# Altium footprint library AccShelf.PcbLib: 18 footprints (part 1 of 2)
Each footprint in its own frame and in the unit in brackets; x right, y up, seen from the top. Pads: shape width x height; smd on the part's side, far side on the other; paste and mask are expansions set on the pad; w line width, h text height; cw(c..) or ccw(c..) is an arc to the next point about the centre after c.
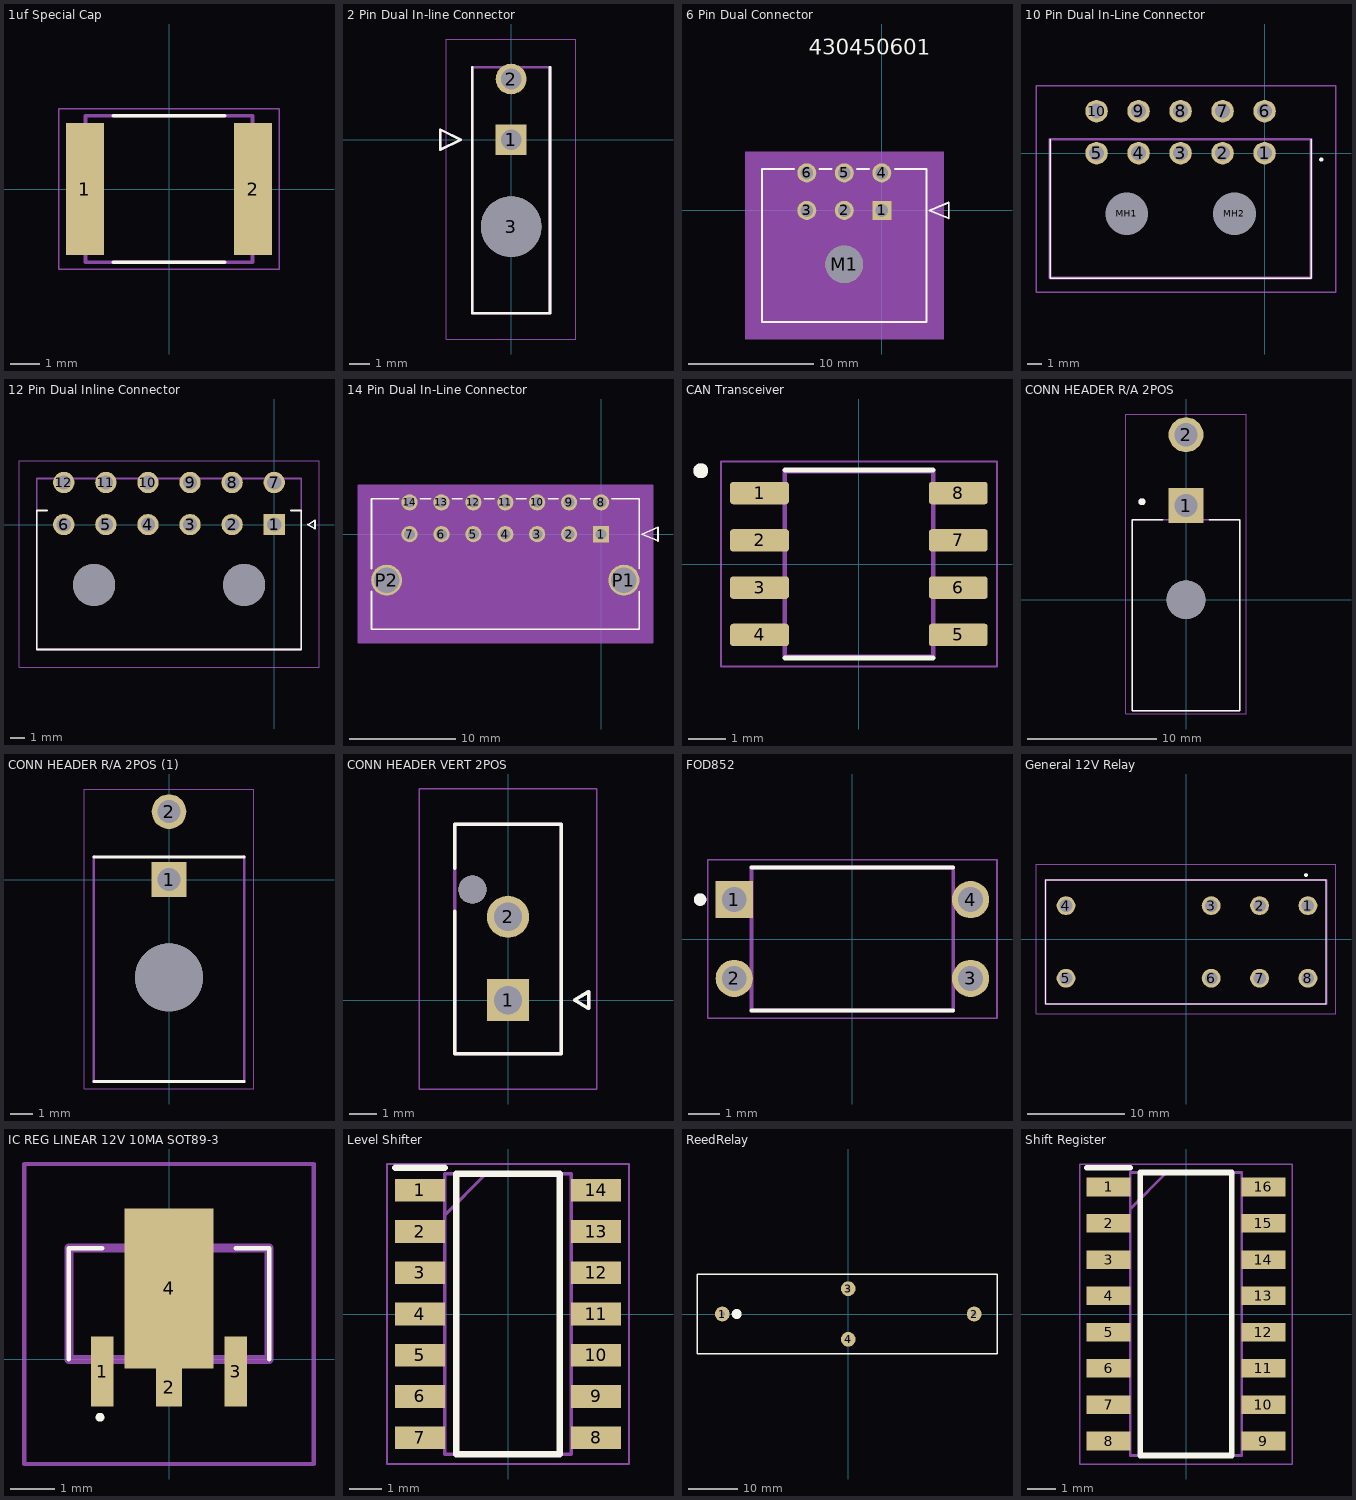
[diagram p0: the footprints below, top view; thin cyan lines are the x and y axes]

## 1uf Special Cap [mm]
height 2.8
pads (2):
  rect 1.3x4.5 smd: 1(-2.875,0) 2(2.875,0)
Top Overlay:
  lines w0.127: -1.905,-2.5 1.905,-2.5 ; -1.905,2.5 1.905,2.5
Mechanical 13:
  lines w0.127: -2.85,-2.5 2.85,-2.5 2.85,2.5 -2.85,2.5 -2.85,-2.5
Mechanical 15:
  lines w0.05: -3.775,-2.75 3.775,-2.75 3.775,2.75 -3.775,2.75 -3.775,-2.75
3D body "CGA9P4X7T2W105K250KA.STEP": height 2.81, standoff 0.01, extent -2.85,-2.54 2.85,2.46

## 2 Pin Dual In-line Connector [mm]
pads (3):
  rect 1.52x1.52 / inner round 1.52 / far side rect 1.52x1.52 hole 1.02 mask+0.076: 1(0,0)
  round 1.52 hole 1.02 mask+0.076: 2(0,3)
  round 3 hole 3 unplated mask+0.076: 3(0,-4.3)
Top Overlay:
  lines w0.127: -1.925,3.59 -1.925,-8.59 1.925,-8.59 1.925,3.59 ; -3.5,-0.5 -3.5,0.5 -2.5,0 -3.5,-0.5
Mechanical 15:
  lines w0.127: -3.5,-0.5 -3.5,0.5 -2.5,0 -3.5,-0.5 ; -1.925,-8.59 1.925,-8.59 1.925,3.59 -1.925,3.59 -1.925,-8.59
Bottom Assembly:
  lines w0.05: -3.195,-9.86 3.195,-9.86 3.195,4.979 -3.195,4.979 -3.195,-9.86
3D body "212528-0200.stp": height 8.81, standoff -3.24, extent -1.945,-8.757 1.905,3.423

## 6 Pin Dual Connector [mm]
pads (7):
  rect 1.52x1.52 hole 1.02 mask+0.076: 1(0,0)
  round 1.52 hole 1.02 mask+0.076: 2(-3,0) 3(-6,0) 4(0,3) 5(-3,3) 6(-6,3)
  round 3 hole 3 unplated mask+0.076: M1(-3,-4.32)
Top Overlay:
  lines w0.152: -7.032,3.32 -9.575,3.32 -9.575,-8.92 3.575,-8.92 3.575,3.32 1.032,3.32 ; -4.968,3.32 -4.032,3.32 ; -1.968,3.32 -1.032,3.32 ; 3.829,0 5.353,-0.635 5.353,0.635 3.829,0
  text "430450601" at -5.858,12.44 h1.27
Mechanical 3:
  text "NPTH_DRILL_SIZE:_3.0_MM,_TOLERANCE:_+0.05/-0.05" at -17.923,-18.04 h1.27
  text "PTH_DRILL_SIZE:_1.02_MM,_TOLERANCE:_+0.05/-0.05" at -17.923,-15.5 h1.27
Mechanical 5:
  region: -10.922,4.699 4.953,4.699 4.953,-10.287 -10.922,-10.287
Mechanical 10:
  text "NPTH_DRILL_SIZE:_3.0_MM,_TOLERANCE:_+0.05/-0.05" at -17.923,-18.04 h1.27
  text "PTH_DRILL_SIZE:_1.02_MM,_TOLERANCE:_+0.05/-0.05" at -17.923,-15.5 h1.27
Mechanical 13:
  lines w0.127: -9.575,-8.92 -9.575,3.32 3.575,3.32 3.575,-8.92 -9.575,-8.92 ; 3.829,0 5.353,-0.635 5.353,0.635 3.829,0
  text "430450601" at -5.858,12.44 h1.27
Mechanical 15:
  region: 4.845,4.59 -10.845,4.59 -10.845,-10.19 4.845,-10.19
  lines w0.127: -10.845,-10.19 4.845,-10.19 4.845,4.59 -10.845,4.59 -10.845,-10.19
3D body "430450601.stp": height 8.78, standoff -3.17, extent -9.594,-8.914 3.556,3.326
3D body: height 0.25, standoff 0, extent 0,0 0.254,0.254

## 10 Pin Dual In-Line Connector [mm]
pads (12):
  round 1.605 hole 1.07: 1(0,0) 2(-3,0) 3(-6,0) 4(-9,0) 5(-12,0) 6(0,3) 7(-3,3) 8(-6,3) 9(-9,3) 10(-12,3)
  round 1.525 hole 3.05 unplated: MH1(-9.85,-4.32) MH2(-2.15,-4.32)
Top Overlay:
  lines w0.1: -15.325,0.99 -15.325,-8.92 3.325,-8.92 3.325,0.99
  lines w0.2: 4,-0.46 ccw(c4.05,-0.46) 4.1,-0.46 ccw(c4.05,-0.46) 4,-0.46
Mechanical 15:
  lines w0.2: -15.325,-8.92 3.325,-8.92 3.325,0.99 -15.325,0.99 -15.325,-8.92
Bottom Assembly:
  lines w0.1: -16.325,-9.92 5.1,-9.92 5.1,4.803 -16.325,4.803 -16.325,-9.92
3D body "0430451000--3DModel-STEP-361473.STEP": height 8.78, standoff -3.17, extent -15.544,-8.892 3.606,3.348

## 12 Pin Dual Inline Connector [mm]
height 8.8
pads (14):
  rect 1.52x1.52 / inner round 1.52 / far side rect 1.52x1.52 hole 1.02 mask+0.076: 1(0,0)
  round 1.52 hole 1.02 mask+0.076: 2(-3,0) 3(-6,0) 4(-9,0) 5(-12,0) 6(-15,0) 7(0,3) 8(-3,3) 9(-6,3) 10(-9,3) 11(-12,3) 12(-15,3)
  round 3 hole 3 unplated mask+0.076: ""(-12.84,-4.3) ""(-2.14,-4.3)
Top Overlay:
  lines w0.127: -16.2,1.01 -16.925,1.01 -16.925,-8.9 1.925,-8.9 1.925,1.01 1.2,1.01 ; 2.4,0 2.9,0.3 2.9,-0.3 2.4,0
Mechanical 13:
  lines w0.127: -16.925,-8.9 1.925,-8.9 1.925,3.28 -16.925,3.28 -16.925,-8.9 ; 2.4,0 2.9,-0.3 2.9,0.3 2.4,0
  text "PTH D1.02" at -18.302,6.707 h0.5
  text "NPTH D3.00 +/- 0.05" at -18.302,5.437 h0.5
Mechanical 15:
  lines w0.05: -18.195,-10.17 3.195,-10.17 3.195,4.55 -18.195,4.55 -18.195,-10.17
3D body "2125281200--3DModel-STEP-361473.STEP": height 8.81, standoff -3.24, extent -16.918,-8.89 1.932,3.29

## 14 Pin Dual In-Line Connector [mm]
pads (16):
  rect 1.52x1.52 / inner round 1.524 / far side rect 1.52x1.52 hole 1.02 paste-0.76 mask+0.076: 1(0,0)
  round 1.52 / inner round 1.524 / far side round 1.52 hole 1.02 paste-0.76 mask+0.076: 2(-3,0) 3(-6,0) 4(-9,0) 5(-12,0) 6(-15,0) 7(-18,0) 8(0,3) 9(-3,3) 10(-6,3) 11(-9,3) 12(-12,3) 13(-15,3) 14(-18,3)
  round 2.91 / inner round 1.524 / far side round 2.91 hole 2.41 paste-1.455 mask+0.076: P1(2.15,-4.32) P2(-20.15,-4.32)
Top Overlay:
  lines w0.152: -21.575,-5.378 -21.575,-8.92 3.575,-8.92 3.575,-5.378 ; -21.575,-3.262 -21.575,3.32 -19.032,3.32 ; -16.968,3.32 -16.032,3.32 ; -13.968,3.32 -13.032,3.32 ; -10.968,3.32 -10.032,3.32 ; -7.968,3.32 -7.032,3.32 ; -4.968,3.32 -4.032,3.32 ; -1.968,3.32 -1.032,3.32 ; 1.032,3.32 3.575,3.32 3.575,-3.262 ; 3.829,0 5.353,-0.635 5.353,0.635 3.829,0
Mechanical 13:
  lines w0.127: -21.575,-8.92 -21.575,3.32 3.575,3.32 3.575,-8.92 -21.575,-8.92 ; 3.829,0 5.353,-0.635 5.353,0.635 3.829,0
Mechanical 15:
  region: 4.845,4.59 -22.845,4.59 -22.845,-10.19 4.845,-10.19
  lines w0.127: -22.845,-10.19 4.845,-10.19 4.845,4.59 -22.845,4.59 -22.845,-10.19
3D body "430451421.stp": height 8.78, standoff -3.17, extent -21.515,-8.892 3.685,3.348

## CAN Transceiver [mm]
pads (8):
  rrect25% 1.58x0.6 smd: 1(-2.67,1.905) 2(-2.67,0.635) 3(-2.67,-0.635) 4(-2.67,-1.905) 5(2.67,-1.905) 6(2.67,-0.635) 7(2.67,0.635) 8(2.67,1.905)
Top Overlay:
  circle w0.2: c-4.25,2.505 r0.1
  lines w0.127: -1.995,-2.525 1.995,-2.525 ; -1.995,2.525 1.995,2.525
Mechanical 13:
  circle w0.2: c-4.25,2.505 r0.1
  lines w0.127: -1.995,-2.5 1.995,-2.5 1.995,2.5 -1.995,2.5 -1.995,-2.5
Mechanical 15:
  lines w0.05: -3.71,-2.75 3.71,-2.75 3.71,2.75 -3.71,2.75 -3.71,-2.75
3D body "SN.STEP": height 1.76, standoff 0.01, extent -3,-2.45 3,2.45

## CONN HEADER R/A 2POS [mm]
pads (3):
  rect 2.7x2.7 hole 1.8: 1(0,7.3)
  round 2.7 hole 1.8: 2(0,12.8)
  round 3 hole 3 unplated: ""(0,0)
Top Overlay:
  circle w0.3: c-3.414,7.598 r0.116
  lines w0.127: -1.8,6.2 -4.175,6.2 -4.175,-8.6 4.175,-8.6 4.175,6.2 1.8,6.2
Mechanical 13:
  circle w0.3: c-3.419,7.595 r0.116
  lines w0.127: -4.175,-8.6 4.175,-8.6 4.175,6.2 -4.175,6.2 -4.175,-8.6
Mechanical 15:
  lines w0.05: -4.675,-8.85 4.675,-8.85 4.675,14.4 -4.675,14.4 -4.675,-8.85
3D body "0768250002--3DModel-STEP-361473.STEP": height 14.55, standoff -3.59, extent -4.158,-8.568 4.191,13.394

## CONN HEADER R/A 2POS (1) [mm]
pads (3):
  rect 1.53x1.53 hole 1.02: 1(0,0)
  round 1.53 hole 1.02: 2(0,3)
  round 3 hole 3 unplated: ""(0,-4.32)
Top Overlay:
  lines w0.127: -3.325,-8.92 3.325,-8.92 ; -3.325,0.99 3.325,0.99
Mechanical 13:
  lines w0.127: -3.325,-8.92 -3.325,0.99 ; 3.325,-8.92 3.325,0.99
Mechanical 15:
  lines w0.05: -3.75,-9.25 3.75,-9.25 3.75,4 -3.75,4 -3.75,-9.25
3D body "430450201.stp": height 8.78, standoff -3.17, extent -3.594,-8.914 3.556,3.326

## CONN HEADER VERT 2POS [mm]
height 9.91
pads (3):
  rect 1.52x1.52 / inner round 1.52 / far side rect 1.52x1.52 hole 1.02 mask+0.076: 1(0,0)
  round 1.52 hole 1.02 mask+0.076: 2(0,3)
  round 1.02 hole 1.02 unplated mask+0.076: ""(-1.28,3.98)
Top Overlay:
  lines w0.127: -1.925,3.2 -1.925,-1.93 1.925,-1.93 1.925,6.33 0.7,6.33 -0.7,6.33 -1.925,6.33 -1.925,4.75 ; 2.4,0 2.9,0.3 2.9,-0.3 2.4,0
Top Solder:
  circle w0.836: c0,3 r0.418
Mechanical 13:
  lines w0.127: -1.925,-1.93 -1.925,6.33 -0.7,6.33 0.7,6.33 1.925,6.33 1.925,-1.93 -1.925,-1.93 ; 2.4,0 2.9,0.3 2.9,-0.3 2.4,0
  text "NPTH D1.02" at -2.5,-8 h0.5
  text "PTH D1.02 +/- 0.05" at -2.5,-7 h0.5
Mechanical 15:
  lines w0.05: -3.195,-3.2 -3.195,7.6 3.195,7.6 3.195,-3.2 -3.195,-3.2
3D body "2068320201--3DModel-STEP-361473.STEP": height 9.92, standoff -3.17, extent -1.925,-1.844 1.925,6.416

## FOD852 [mm]
pads (4):
  rect 1.2x1.2 hole 0.8: 1(-3.81,1.27)
  round 1.2 hole 0.8: 2(-3.81,-1.27) 3(3.81,-1.27) 4(3.81,1.27)
Top Overlay:
  circle w0.2: c-4.91,1.27 r0.1
  lines w0.127: -3.25,-2.3 3.25,-2.3 ; -3.25,2.3 3.25,2.3
Mechanical 13:
  circle w0.2: c-4.91,1.27 r0.1
  lines w0.127: -3.25,-2.3 -3.25,2.3 3.25,2.3 3.25,-2.3 -3.25,-2.3
Mechanical 15:
  lines w0.05: -4.66,-2.55 -4.66,2.55 4.66,2.55 4.66,-2.55 -4.66,-2.55
3D body "step_temp.STEP": height 4.4, standoff -3.3, extent -3.94,-2.173 3.94,2.427

## General 12V Relay [mm]
pads (8):
  round 1.95 hole 1.3: 1(12.6,3.45) 2(7.6,3.45) 3(2.6,3.45) 4(-12.4,3.45) 5(-12.4,-4.05) 6(2.6,-4.05) 7(7.6,-4.05) 8(12.6,-4.05)
Top Overlay:
  lines w0.1: -14.5,-6.7 14.5,-6.7 14.5,6.1 -14.5,6.1 -14.5,-6.7
  lines w0.2: 12.3,6.6 cw(c12.4,6.6) 12.5,6.6 cw(c12.4,6.6) 12.3,6.6
Mechanical 15:
  lines w0.2: -14.5,-6.7 14.5,-6.7 14.5,6.1 -14.5,6.1 -14.5,-6.7
Bottom Assembly:
  lines w0.1: -15.5,-7.7 15.5,-7.7 15.5,7.7 -15.5,7.7 -15.5,-7.7
3D body "FTR-F1CA012V.stp": height 5.8, standoff -4.65, extent -10,-3.376 10,3.376

## IC REG LINEAR 12V 10MA SOT89-3 [mm]
pads (4):
  rect 0.5x1.57 smd: 1(-1.5,-0.275) 3(1.5,-0.275)
  rect 0.58x0.86 smd: 2(0,-0.63)
  rect 2x3.59 smd: 4(0,1.595)
Top Overlay:
  lines w0.1: -2.25,0 -2.25,2.5 -1.5,2.5 ; 1.5,2.5 2.25,2.5 2.25,0 ; -1.6,-1.3 cw(c-1.55,-1.3) -1.5,-1.3 cw(c-1.55,-1.3) -1.6,-1.3
Mechanical 15:
  lines w0.2: -2.25,0 2.25,0 2.25,2.5 -2.25,2.5 -2.25,0
Bottom Assembly:
  lines w0.1: -3.25,-2.35 3.25,-2.35 3.25,4.39 -3.25,4.39 -3.25,-2.35
3D body "NCP785AH120T1G.stp": height 5.8, standoff -4.65, extent -10,-3.376 10,3.376

## Level Shifter [mm]
pads (14):
  rect 1.528x0.7 smd: 1(-2.711,3.81) 2(-2.711,2.54) 3(-2.711,1.27) 4(-2.711,0) 5(-2.711,-1.27) 6(-2.711,-2.54) 7(-2.711,-3.81) 8(2.711,-3.81) 9(2.711,-2.54) 10(2.711,-1.27) 11(2.711,0) 12(2.711,1.27) 13(2.711,2.54) 14(2.711,3.81)
Top Overlay:
  lines w0.2: -3.475,4.51 -1.948,4.51 ; -1.598,-4.318 -1.598,4.318 1.598,4.318 1.598,-4.318 -1.598,-4.318
Mechanical 15:
  lines w0.1: -1.948,3.048 -0.678,4.318 ; -1.948,-4.318 -1.948,4.318 1.948,4.318 1.948,-4.318 -1.948,-4.318
Bottom Assembly:
  lines w0.05: -3.725,-4.62 -3.725,4.62 3.725,4.62 3.725,-4.62 -3.725,-4.62
3D body "74AHCT125S14-13.stp": height 5.8, standoff -4.65, extent -10,-3.376 10,3.376

## ReedRelay [mm]
pads (4):
  round 3 hole 1: 1(-25.4,0) 2(25.4,0) 3(0,5.1) 4(0,-5.1)
Top Overlay:
  circle w1: c-22.5,0 r0.5
  lines w0.254: -30.5,-8 30,-8 30,8 -30.5,8 -30.5,-8
3D body "ReedRelay.stp": height 18.5, standoff -4, extent -30,-7.9 30,7.9

## Shift Register [mm]
pads (16):
  rect 1.525x0.65 smd: 1(-2.712,4.445) 2(-2.712,3.175) 3(-2.712,1.905) 4(-2.712,0.635) 5(-2.712,-0.635) 6(-2.712,-1.905) 7(-2.712,-3.175) 8(-2.712,-4.445) 9(2.712,-4.445) 10(2.712,-3.175) 11(2.712,-1.905) 12(2.712,-0.635) 13(2.712,0.635) 14(2.712,1.905) 15(2.712,3.175) 16(2.712,4.445)
Top Overlay:
  lines w0.2: -3.475,5.12 -1.95,5.12 ; -1.6,-4.95 1.6,-4.95 1.6,4.95 -1.6,4.95 -1.6,-4.95
Mechanical 15:
  lines w0.1: -1.95,3.68 -0.68,4.95 ; -1.95,-4.95 1.95,-4.95 1.95,4.95 -1.95,4.95 -1.95,-4.95
Bottom Assembly:
  lines w0.05: -3.725,-5.25 3.725,-5.25 3.725,5.25 -3.725,5.25 -3.725,-5.25
3D body "SN74HC165QDRQ1.stp": height 5.8, standoff -4.65, extent -10,-3.376 10,3.376